# Altium integrated library LM393M.IntLib: 1 symbol
Pins are listed as number, name and electrical type; pins without a type are passive.

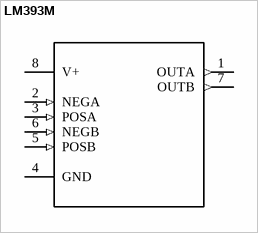
[diagram p0: symbol LM393M]

## LM393M
designator U?  (value not drawn)
Value: *
footprint SOIC127P620X175-8N
pins: 1 OUTA (out), 2 NEGA (in), 3 POSA (in), 4 GND, 5 POSB (in), 6 NEGB (in), 7 OUTB (out), 8 V+ (power)